# Altium footprint library SMD Bridge Rectifiers.PcbLib: 1 footprints
Each footprint in its own frame and in the unit in brackets; x right, y up, seen from the top. Pads: shape width x height; smd on the part's side, far side on the other; paste and mask are expansions set on the pad; w line width, h text height; cw(c..) or ccw(c..) is an arc to the next point about the centre after c.
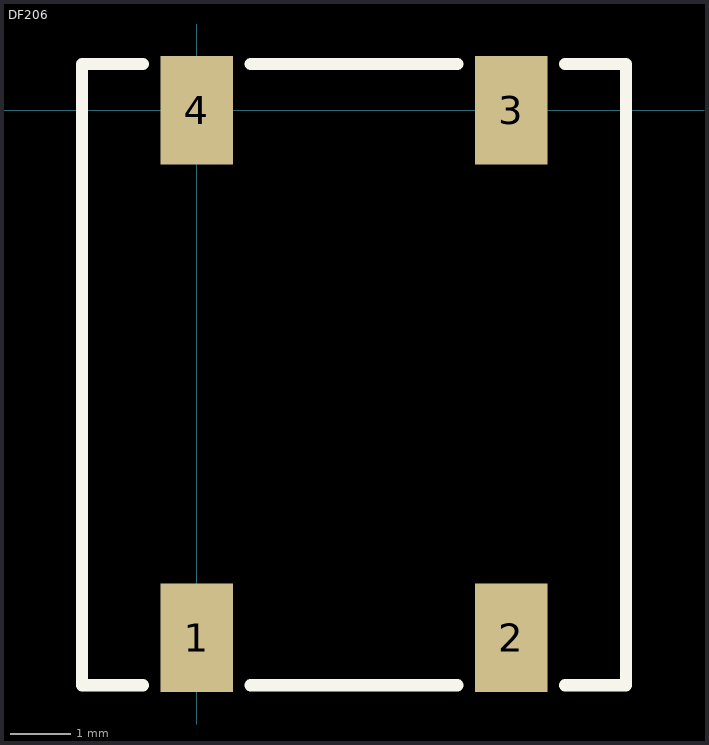
[diagram p0: the footprint, top view; thin cyan lines are the x and y axes]

## DF206 [mm] "Bridge Rectifier Single Phase Standard 600V Surface Mount DFS"
pads (4):
  rect 1.2x1.8 smd: 1(0,-8.74) 2(5.21,-8.74) 3(5.21,0) 4(0,0)
Top Overlay:
  lines w0.2: -0.889,-9.525 -1.905,-9.525 -1.905,0.762 -0.889,0.762 ; 0.889,-9.525 4.318,-9.525 ; 0.889,0.762 4.318,0.762 ; 6.096,-9.525 7.112,-9.525 7.112,0.762 6.096,0.762
3D body "Bridge rectifier DFS package-1.step": height 3.03, standoff 0.01, extent -1.8,-9.385 7,0.585